# Altium footprint library MX.PcbLib: 64 footprints (part 3 of 4)
Each footprint in its own frame and in the unit in brackets; x right, y up, seen from the top. Pads: shape width x height; smd on the part's side, far side on the other; paste and mask are expansions set on the pad; w line width, h text height; cw(c..) or ccw(c..) is an arc to the next point about the centre after c.
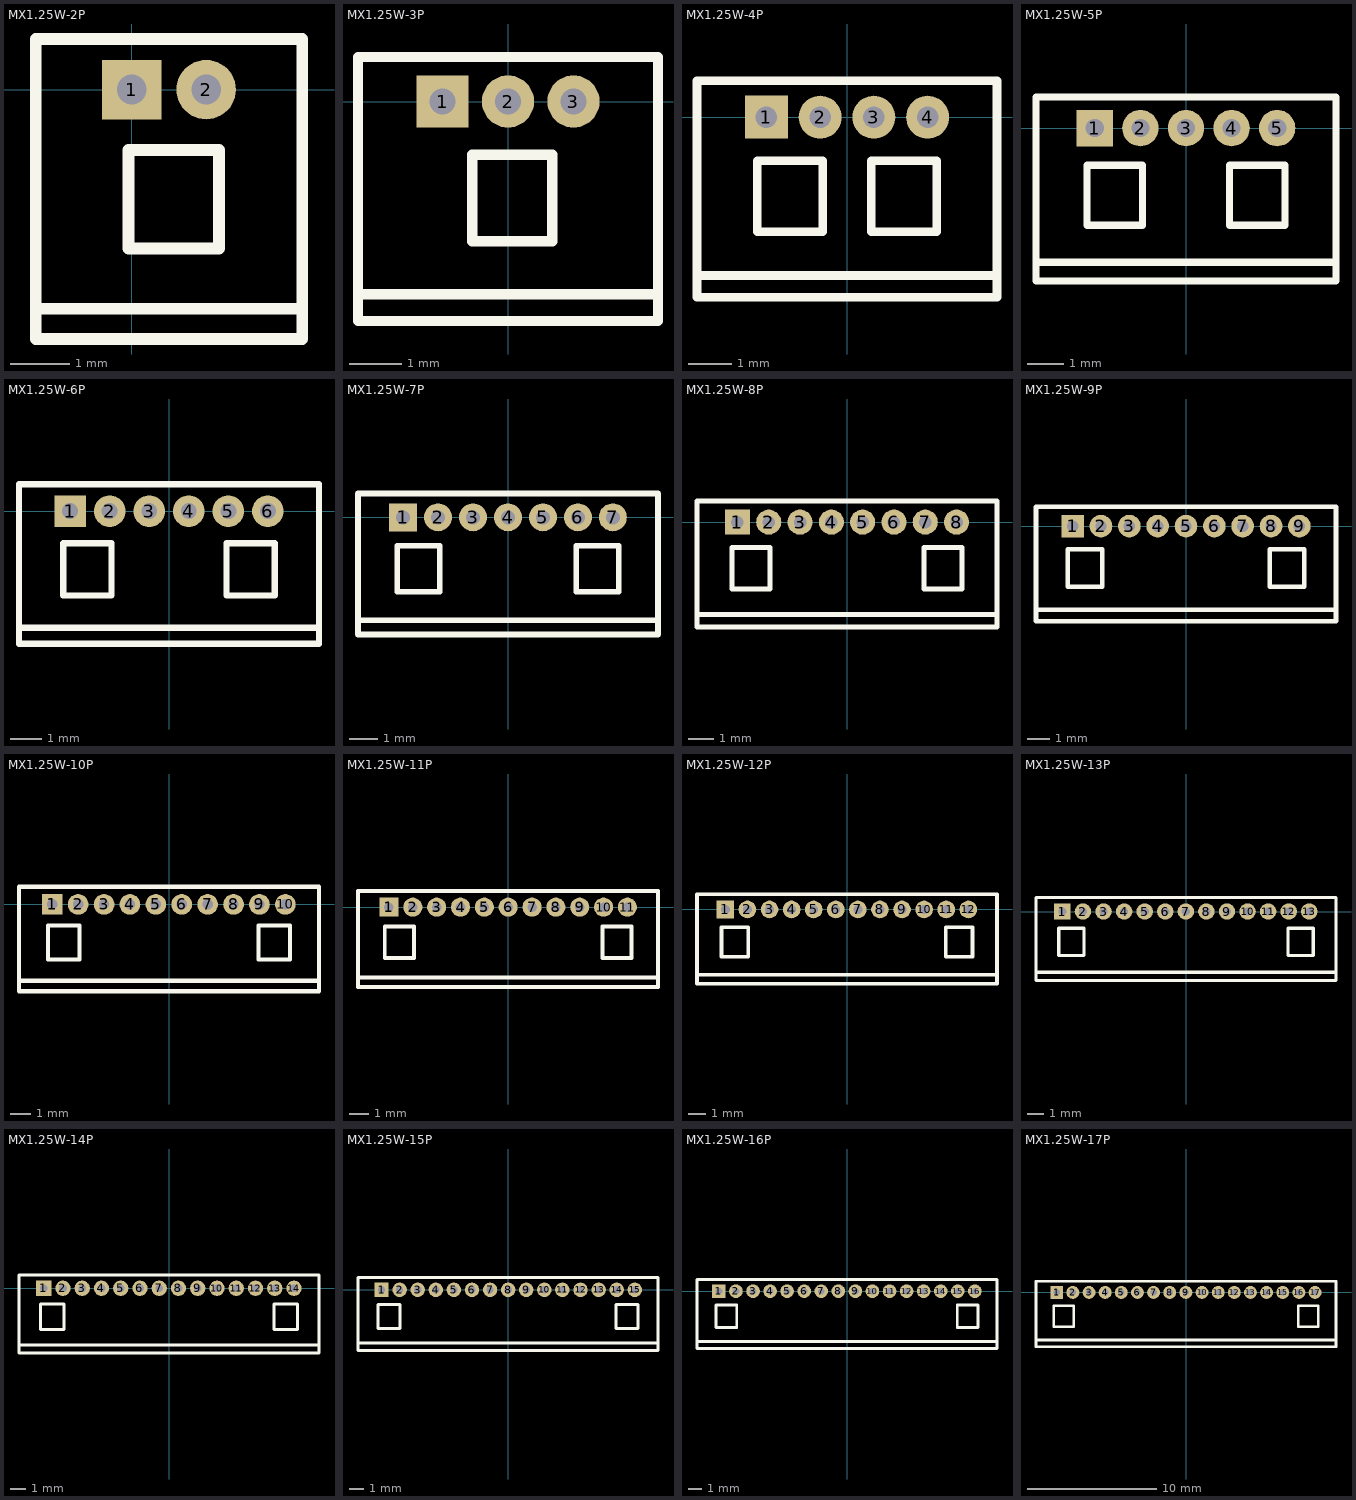
[diagram p2: the footprints below, top view; thin cyan lines are the x and y axes]

## MX1.25W-2P [mm]
pads (2):
  rect 1x1 hole 0.5: 1(0,0)
  round 1 hole 0.5: 2(1.25,0)
Top Overlay:
  lines w0.2: -1.614,-3.683 2.864,-3.683 ; -1.614,-4.191 2.864,-4.191 2.864,0.85 -1.614,0.85 -1.614,-4.191 ; -0.057,-2.667 1.467,-2.667 1.467,-1.016 -0.057,-1.016 -0.057,-2.667
3D body "MX 1.25-WI-2P.STEP": height 3.35, standoff -2.1, extent -1.499,-4.05 2.751,0.85

## MX1.25W-3P [mm]
pads (3):
  rect 1x1 hole 0.5: 1(-1.25,0)
  round 1 hole 0.5: 2(0,0) 3(1.25,0)
Top Overlay:
  lines w0.2: -2.864,-3.683 2.864,-3.683 ; -2.864,-4.191 -2.864,0.85 2.864,0.85 2.864,-4.191 -2.864,-4.191 ; -0.682,-2.667 -0.682,-1.016 0.842,-1.016 0.842,-2.667 -0.682,-2.667
3D body "MX 1.25-WI-3P.STEP": height 3.35, standoff -2.1, extent -2.743,-4.05 2.757,0.85

## MX1.25W-4P [mm]
pads (4):
  rect 1x1 hole 0.5: 1(-1.875,0)
  round 1 hole 0.5: 2(-0.625,0) 3(0.625,0) 4(1.875,0)
Top Overlay:
  lines w0.2: -3.489,-3.683 3.489,-3.683 ; -3.489,-4.191 3.489,-4.191 3.489,0.85 -3.489,0.85 -3.489,-4.191 ; -2.092,-2.667 -2.092,-1.016 -0.568,-1.016 -0.568,-2.667 -2.092,-2.667 ; 0.568,-2.667 0.568,-1.016 2.092,-1.016 2.092,-2.667 0.568,-2.667
3D body "MX 1.25-WI-4P.STEP": height 3.35, standoff -2.1, extent -3.353,-4.05 3.397,0.85

## MX1.25W-5P [mm]
pads (5):
  rect 1x1 hole 0.5: 1(-2.5,0)
  round 1 hole 0.5: 2(-1.25,0) 3(0,0) 4(1.25,0) 5(2.5,0)
Top Overlay:
  lines w0.2: -4.114,-3.683 4.114,-3.683 ; -4.114,-4.191 -4.114,0.85 4.114,0.85 4.114,-4.191 -4.114,-4.191 ; -2.717,-2.667 -1.193,-2.667 -1.193,-1.016 -2.717,-1.016 -2.717,-2.667 ; 1.193,-2.667 2.717,-2.667 2.717,-1.016 1.193,-1.016 1.193,-2.667
3D body "MX 1.25-WI-5P.STEP": height 3.35, standoff -2.1, extent -3.988,-4.05 4.012,0.85

## MX1.25W-6P [mm]
pads (6):
  rect 1x1 hole 0.5: 1(-3.125,0)
  round 1 hole 0.5: 2(-1.875,0) 3(-0.625,0) 4(0.625,0) 5(1.875,0) 6(3.125,0)
Top Overlay:
  lines w0.2: -4.739,-3.683 4.739,-3.683 ; -4.739,-4.191 -4.739,0.85 4.739,0.85 4.739,-4.191 -4.739,-4.191 ; -3.342,-2.667 -3.342,-1.016 -1.818,-1.016 -1.818,-2.667 -3.342,-2.667 ; 1.818,-2.667 1.818,-1.016 3.342,-1.016 3.342,-2.667 1.818,-2.667
3D body "MX 1.25-WI-6P.STEP": height 3.35, standoff -2.1, extent -4.6,-4.05 4.65,0.85

## MX1.25W-7P [mm]
pads (7):
  rect 1x1 hole 0.5: 1(-3.75,0)
  round 1 hole 0.5: 2(-2.5,0) 3(-1.25,0) 4(0,0) 5(1.25,0) 6(2.5,0) 7(3.75,0)
Top Overlay:
  lines w0.2: -5.364,-3.683 5.364,-3.683 ; -5.364,-4.191 -5.364,0.85 5.364,0.85 5.364,-4.191 -5.364,-4.191 ; -3.967,-2.667 -2.443,-2.667 -2.443,-1.016 -3.967,-1.016 -3.967,-2.667 ; 2.443,-2.667 3.967,-2.667 3.967,-1.016 2.443,-1.016 2.443,-2.667
3D body "MX 1.25-WI-7P.STEP": height 3.35, standoff -2.1, extent -5.258,-4.087 5.242,0.813

## MX1.25W-8P [mm]
pads (8):
  rect 1x1 hole 0.5: 1(-4.375,0)
  round 1 hole 0.5: 2(-3.125,0) 3(-1.875,0) 4(-0.625,0) 5(0.625,0) 6(1.875,0) 7(3.125,0) 8(4.375,0)
Top Overlay:
  lines w0.2: -5.989,-3.683 5.989,-3.683 ; -5.989,-4.191 5.989,-4.191 5.989,0.85 -5.989,0.85 -5.989,-4.191 ; -4.592,-2.667 -3.068,-2.667 -3.068,-1.016 -4.592,-1.016 -4.592,-2.667 ; 3.068,-2.667 4.592,-2.667 4.592,-1.016 3.068,-1.016 3.068,-2.667
3D body "MX 1.25-WI-8P.STEP": height 3.35, standoff -2.1, extent -5.85,-4.064 5.9,0.836

## MX1.25W-9P [mm]
pads (9):
  rect 1x1 hole 0.5: 1(-5,0)
  round 1 hole 0.5: 2(-3.75,0) 3(-2.5,0) 4(-1.25,0) 5(0,0) 6(1.25,0) 7(2.5,0) 8(3.75,0) 9(5,0)
Top Overlay:
  lines w0.2: -6.614,-3.683 6.614,-3.683 ; -6.614,-4.191 6.614,-4.191 6.614,0.85 -6.614,0.85 -6.614,-4.191 ; -5.217,-2.667 -5.217,-1.016 -3.693,-1.016 -3.693,-2.667 -5.217,-2.667 ; 3.693,-2.667 5.217,-2.667 5.217,-1.016 3.693,-1.016 3.693,-2.667
3D body "MX 1.25-WI-9P.STEP": height 3.35, standoff -2.1, extent -6.502,-4.076 6.498,0.824

## MX1.25W-10P [mm]
pads (10):
  rect 1x1 hole 0.5: 1(-5.635,0)
  round 1 hole 0.5: 2(-4.385,0) 3(-3.135,0) 4(-1.885,0) 5(-0.635,0) 6(0.615,0) 7(1.865,0) 8(3.115,0) 9(4.365,0) 10(5.615,0)
Top Overlay:
  lines w0.2: -7.239,-3.683 7.239,-3.683 ; -7.239,-4.191 -7.239,0.85 7.239,0.85 7.239,-4.191 -7.239,-4.191 ; -5.842,-2.667 -4.318,-2.667 -4.318,-1.016 -5.842,-1.016 -5.842,-2.667 ; 4.318,-2.667 5.842,-2.667 5.842,-1.016 4.318,-1.016 4.318,-2.667
3D body "MX 1.25-WI-10P.STEP": height 3.35, standoff -2.1, extent -7.125,-4.064 7.125,0.836

## MX1.25W-11P [mm]
pads (11):
  rect 1x1 hole 0.5: 1(-6.26,0)
  round 1 hole 0.5: 2(-5.01,0) 3(-3.76,0) 4(-2.51,0) 5(-1.26,0) 6(-0.01,0) 7(1.24,0) 8(2.49,0) 9(3.74,0) 10(4.99,0) 11(6.24,0)
Top Overlay:
  lines w0.2: -7.884,-3.683 7.844,-3.683 ; -7.884,-4.191 7.844,-4.191 7.844,0.85 -7.884,0.85 -7.884,-4.191 ; -6.477,-2.667 -4.953,-2.667 -4.953,-1.016 -6.477,-1.016 -6.477,-2.667 ; 4.933,-2.667 4.933,-1.016 6.457,-1.016 6.457,-2.667 4.933,-2.667
3D body "MX 1.25-WI-11P.STEP": height 3.35, standoff -2.1, extent -7.722,-4.062 7.778,0.838

## MX1.25W-12P [mm]
pads (12):
  rect 1x1 hole 0.5: 1(-6.885,0)
  round 1 hole 0.5: 2(-5.635,0) 3(-4.385,0) 4(-3.135,0) 5(-1.885,0) 6(-0.635,0) 7(0.615,0) 8(1.865,0) 9(3.115,0) 10(4.365,0) 11(5.615,0) 12(6.865,0)
Top Overlay:
  lines w0.2: -8.489,-3.683 8.489,-3.683 ; -8.489,-4.191 8.489,-4.191 8.489,0.85 -8.489,0.85 -8.489,-4.191 ; -7.102,-2.667 -7.102,-1.016 -5.578,-1.016 -5.578,-2.667 -7.102,-2.667 ; 5.578,-2.667 7.102,-2.667 7.102,-1.016 5.578,-1.016 5.578,-2.667
3D body "MX 1.25-WI-12P.STEP": height 3.35, standoff -2.1, extent -8.382,-4.076 8.368,0.824

## MX1.25W-13P [mm]
pads (13):
  rect 1x1 hole 0.5: 1(-7.51,0)
  round 1 hole 0.5: 2(-6.26,0) 3(-5.01,0) 4(-3.76,0) 5(-2.51,0) 6(-1.26,0) 7(-0.01,0) 8(1.24,0) 9(2.49,0) 10(3.74,0) 11(4.99,0) 12(6.24,0) 13(7.49,0)
Top Overlay:
  lines w0.2: -9.114,-3.683 9.114,-3.683 ; -9.114,-4.191 9.114,-4.191 9.114,0.85 -9.114,0.85 -9.114,-4.191 ; -7.727,-2.667 -7.727,-1.016 -6.203,-1.016 -6.203,-2.667 -7.727,-2.667 ; 6.203,-2.667 7.727,-2.667 7.727,-1.016 6.203,-1.016 6.203,-2.667
3D body "MX 1.25-WI-13P.STEP": height 3.35, standoff -2.1, extent -9.042,-4.076 8.958,0.824

## MX1.25W-14P [mm]
pads (14):
  rect 1x1 hole 0.5: 1(-8.135,0)
  round 1 hole 0.5: 2(-6.885,0) 3(-5.635,0) 4(-4.385,0) 5(-3.135,0) 6(-1.885,0) 7(-0.635,0) 8(0.615,0) 9(1.865,0) 10(3.115,0) 11(4.365,0) 12(5.615,0) 13(6.865,0) 14(8.115,0)
Top Overlay:
  lines w0.2: -9.739,-3.683 9.739,-3.683 ; -9.739,-4.191 -9.739,0.85 9.739,0.85 9.739,-4.191 -9.739,-4.191 ; -8.352,-2.667 -8.352,-1.016 -6.828,-1.016 -6.828,-2.667 -8.352,-2.667 ; 6.828,-2.667 8.352,-2.667 8.352,-1.016 6.828,-1.016 6.828,-2.667
3D body "MX 1.25-WI-14P.STEP": height 3.35, standoff -2.1, extent -9.627,-4.076 9.623,0.824

## MX1.25W-15P [mm]
pads (15):
  rect 1x1 hole 0.5: 1(-8.76,0)
  round 1 hole 0.5: 2(-7.51,0) 3(-6.26,0) 4(-5.01,0) 5(-3.76,0) 6(-2.51,0) 7(-1.26,0) 8(-0.01,0) 9(1.24,0) 10(2.49,0) 11(3.74,0) 12(4.99,0) 13(6.24,0) 14(7.49,0) 15(8.74,0)
Top Overlay:
  lines w0.2: -10.384,-3.683 10.344,-3.683 ; -10.384,-4.191 10.344,-4.191 10.344,0.85 -10.384,0.85 -10.384,-4.191 ; -8.997,-2.667 -8.997,-1.016 -7.473,-1.016 -7.473,-2.667 -8.997,-2.667 ; 7.433,-2.667 8.957,-2.667 8.957,-1.016 7.433,-1.016 7.433,-2.667
3D body "MX 1.25-WI-15P.STEP": height 3.35, standoff -2.1, extent -10.262,-4.076 10.238,0.824

## MX1.25W-16P [mm]
pads (16):
  rect 1x1 hole 0.5: 1(-9.385,0)
  round 1 hole 0.5: 2(-8.135,0) 3(-6.885,0) 4(-5.635,0) 5(-4.385,0) 6(-3.135,0) 7(-1.885,0) 8(-0.635,0) 9(0.615,0) 10(1.865,0) 11(3.115,0) 12(4.365,0) 13(5.615,0) 14(6.865,0) 15(8.115,0) 16(9.365,0)
Top Overlay:
  lines w0.2: -10.989,-3.683 10.989,-3.683 ; -10.989,-4.191 10.989,-4.191 10.989,0.85 -10.989,0.85 -10.989,-4.191 ; -9.602,-2.667 -8.078,-2.667 -8.078,-1.016 -9.602,-1.016 -9.602,-2.667 ; 8.078,-2.667 8.078,-1.016 9.602,-1.016 9.602,-2.667 8.078,-2.667
3D body "MX 1.25-WI-16P.STEP": height 3.35, standoff -2.1, extent -10.897,-4.076 10.853,0.824

## MX1.25W-17P [mm]
pads (17):
  rect 1x1 hole 0.5: 1(-10.01,0)
  round 1 hole 0.5: 2(-8.76,0) 3(-7.51,0) 4(-6.26,0) 5(-5.01,0) 6(-3.76,0) 7(-2.51,0) 8(-1.26,0) 9(-0.01,0) 10(1.24,0) 11(2.49,0) 12(3.74,0) 13(4.99,0) 14(6.24,0) 15(7.49,0) 16(8.74,0) 17(9.99,0)
Top Overlay:
  lines w0.2: -11.614,-3.683 11.614,-3.683 ; -11.614,-4.191 -11.614,0.85 11.614,0.85 11.614,-4.191 -11.614,-4.191 ; -10.227,-2.667 -10.227,-1.016 -8.703,-1.016 -8.703,-2.667 -10.227,-2.667 ; 8.703,-2.667 10.227,-2.667 10.227,-1.016 8.703,-1.016 8.703,-2.667
3D body "MX 1.25-WI-17P.STEP": height 3.35, standoff -2.1, extent -11.532,-4.076 11.468,0.824